# Altium footprint library rest.PCBLIB: 42 footprints (part 1 of 3)
Each footprint in its own frame and in the unit in brackets; x right, y up, seen from the top. Pads: shape width x height; smd on the part's side, far side on the other; paste and mask are expansions set on the pad; w line width, h text height; cw(c..) or ccw(c..) is an arc to the next point about the centre after c.
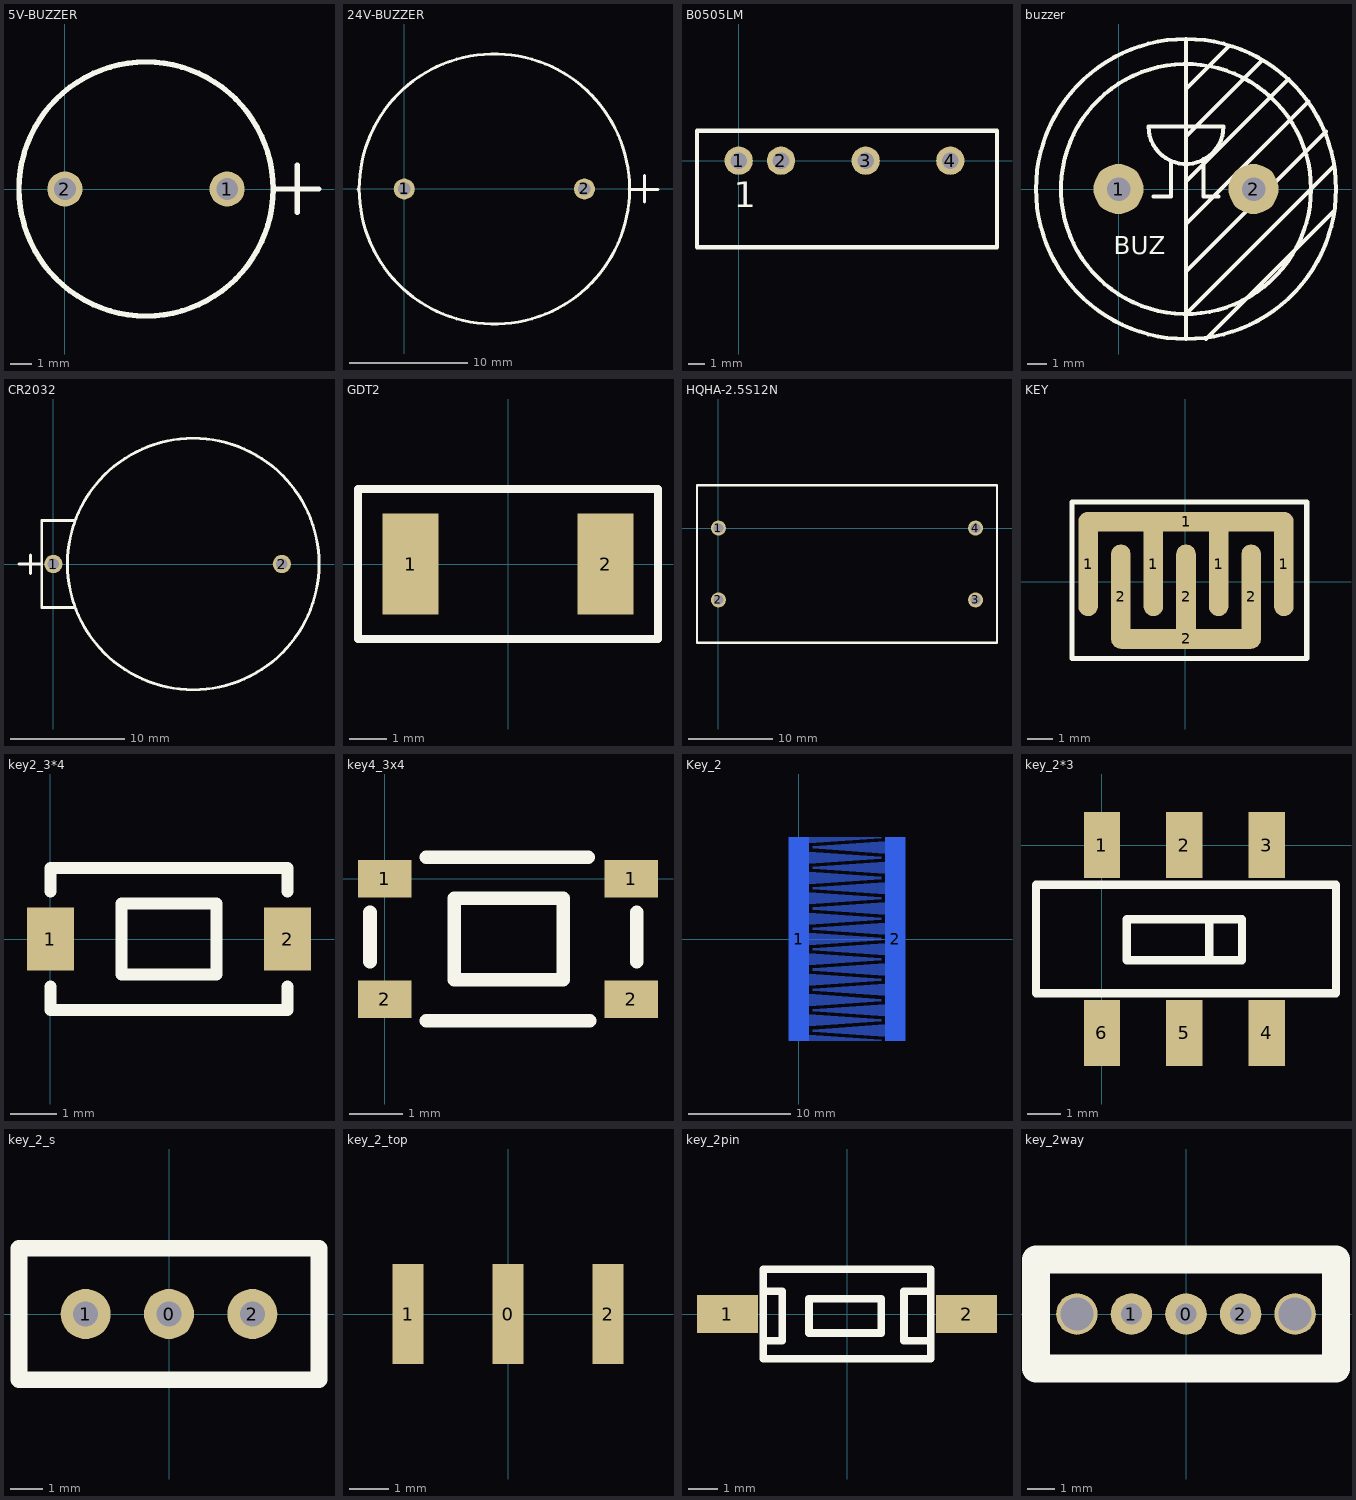
[diagram p0: the footprints below, top view; thin cyan lines are the x and y axes]

## 5V-BUZZER [mil]
pads (2):
  round 65 hole 40: 1(300,0) 2(0,0)
TopOverlay:
  circle w10: c150,0 r235
  lines w10: 385,0 470,0 ; 430,-43 430,44

## 24V-BUZZER [mil]
pads (2):
  round 70 hole 42: 1(0,0) 2(600,0)
TopOverlay:
  circle w10: c300,0 r450
  lines w10: -154,-1 -151,2 ; 749,0 750,-1 845,-1 ; 800,-43 800,45

## B0505LM [mm]
pads (4):
  round 1.7 hole 1: 1(0,0) 2(2.54,0) 3(7.62,0) 4(12.7,0)
TopOverlay:
  lines w0.254: -2.5,-5.2 -2.5,1.8 15.5,1.8 15.5,-5.2 -2.5,-5.2
  text "1" at -0.3,-2.8 h1.52

## buzzer [mil]
pads (2):
  round 100 hole 47: 1(0,0) 2(270,0)
TopOverlay:
  circle w8: c135,0 r250
  circle w8: c135,0 r300
  lines w8: 70,-15 105,-15 105,55 ; 135,-300 135,300 ; 135,-250 430,45 ; 135,-165 415,115 ; 135,-70 380,175 ; 135,15 340,220 ; 135,105 285,255 ; 135,200 220,285 ; 170,60 170,-15 200,-15 ; 175,-300 430,-45 ; 60,125 ccw(c135,125) 210,125 60,125
  text "BUZ" at -10,-130 h36

## CR2032 [mm]
pads (2):
  round 1.6 hole 1: 1(0,0) 2(19.984,0)
TopOverlay:
  circle w0.254: c12.234,0 r11
  lines w0.254: -3.007,0 -1.016,0 ; -2.016,-0.838 -2.016,0.787 ; 1.784,-3.8 -1.016,-3.8 -1.016,3.8 1.784,3.8

## GDT2 [mm]
pads (2):
  rect 1.5x2.7 smd: 1(-2.6,0) 2(2.6,0)
TopOverlay:
  lines w0.203: -4,-2 -4,2 4,2 4,-2 -4,-2

## HQHA-2.5S12N [mil]
pads (4):
  round 70 hole 45: 1(0,0) 2(0,-335) 3(1200,-335) 4(1200,0)
TopOverlay:
  lines w10: -100,-535 -100,200 1300,200 1300,-535 -100,-535

## KEY [mil]
pads (9):
  oval 30x160 smd: 1(-148.82,27.56) 1(-48.82,27.56) 1(51.18,27.56) 1(151.18,27.56) 2(-98.82,-22.44) 2(1.18,-22.44) 2(101.18,-22.44)
  oval 330x30 smd: 1(1.18,92.56)
  oval 230x30 smd: 2(1.18,-87.44)
TopOverlay:
  lines w8: -173.82,-117.44 -173.82,122.56 186.18,122.56 186.18,-117.44 -173.82,-117.44

## key2_3*4 [mm]
pads (2):
  rect 1x1.35 smd: 1(0,0) 2(5.08,0)
TopOverlay:
  lines w0.254: 0,-1.016 0,-1.524 5.08,-1.524 5.08,-1.016 ; 0,1.016 0,1.524 0.254,1.524 4.826,1.524 5.08,1.524 5.08,1.016 ; 1.524,-0.762 3.556,-0.762 3.556,0.762 1.524,0.762 1.524,-0.762
3D body "SW.STEP": height 2, standoff -0.1, extent -0.034,-1.573 4.924,1.427

## key4_3x4 [mm]
pads (4):
  rect 1x0.7 smd: 1(0,0) 1(4.6,0) 2(0,-2.25) 2(4.6,-2.25)
TopOverlay:
  lines w0.254: -0.275,-1.55 -0.275,-0.625 ; 0.775,-2.65 3.825,-2.65 ; 0.775,0.399 3.8,0.4 ; 4.7,-1.55 4.7,-0.625 ; 1.299,-1.887 3.331,-1.887 3.331,-0.363 1.299,-0.363 1.299,-1.887
3D body "SW.STEP": height 2, standoff -0.1, extent -0.259,-2.698 4.699,0.302

## Key_2 [mm]
pads (2):
  rect 2x20 smd far side: 1(0,0) 2(9.5,0)
BottomLayer:
  region: 1,-5.4 8.1,-5.9 8.1,-6.1 1,-6.6
  region: 8.5,-4.4 1.4,-4.9 1.4,-5.1 8.5,-5.6
  region: 1,-7.4 8.1,-7.9 8.1,-8.1 1,-8.6
  region: 1,-9.4 8.1,-9.9 8.1,-10 1,-10
  region: 8.5,-8.4 1.4,-8.9 1.4,-9.1 8.5,-9.6
  region: 8.5,-6.4 1.4,-6.9 1.4,-7.1 8.5,-7.6
  region: 1,10 8.1,10 8.1,9.9 1,9.4
  region: 1,8.6 8.1,8.1 8.1,7.9 1,7.4
  region: 1,6.6 8.1,6.1 8.1,5.9 1,5.4
  region: 8.5,5.6 1.4,5.1 1.4,4.9 8.5,4.4
  region: 8.5,7.6 1.4,7.1 1.4,6.9 8.5,6.4
  region: 8.5,9.6 1.4,9.1 1.4,8.9 8.5,8.4
  region: 8.5,1.6 1.4,1.1 1.4,0.9 8.5,0.4
  region: 8.5,-0.4 1.4,-0.9 1.4,-1.1 8.5,-1.6
  region: 8.5,-2.4 1.4,-2.9 1.4,-3.1 8.5,-3.6
  region: 1,-3.4 8.1,-3.9 8.1,-4.1 1,-4.6
  region: 1,-1.4 8.1,-1.9 8.1,-2.1 1,-2.6
  region: 1,0.6 8.1,0.1 8.1,-0.1 1,-0.6
  region: 1,4.6 8.1,4.1 8.1,3.9 1,3.4
  region: 8.5,3.6 1.4,3.1 1.4,2.9 8.5,2.4
  region: 1,2.6 8.1,2.1 8.1,1.9 1,1.4

## key_2*3 [mm]
pads (6):
  rect 1.1x2 smd: 1(0,0) 2(2.5,0) 3(5,0) 4(5,-5.7) 5(2.5,-5.7) 6(0,-5.7)
TopOverlay:
  lines w0.254: 3.25,-3.5 3.25,-2.25 ; -2,-4.5 -2,-1.2 7.1,-1.2 7.1,-4.5 -2,-4.5 ; 0.75,-3.5 0.75,-2.25 4.25,-2.25 4.25,-3.5 0.75,-3.5
3D body: height 0.2, standoff 0, extent 4.5,-6.5 5.5,-4.6
3D body: height 0.2, standoff 0, extent 2,-6.5 3,-4.6
3D body: height 0.2, standoff 0, extent -0.5,-6.5 0.5,-4.6
3D body: height 0.2, standoff 0, extent 4.5,-1.1 5.5,0.8
3D body: height 0.2, standoff 0, extent 2,-1.1 3,0.8
3D body: height 0.2, standoff 0, extent -0.5,-1.1 0.5,0.8
3D body: height 3, standoff 0, extent -2,-4.5 7.1,-1.2
3D body: height 4, standoff 3.1, extent 0.8,-3.5 4.3,-2.2
3D body: height 4, standoff 3.1, extent 3.2,-3.5 4.3,-2.2

## key_2_s [mil]
pads (3):
  round 60 hole 30: 0(0,0) 1(-100,0) 2(100,0)
TopOverlay:
  lines w20: -180,-78.74 180,-78.74 180,78.74 -180,78.74 -180,-78.74

## key_2_top [mm]
pads (3):
  rect 0.8x2.54 smd: 0(0,0) 1(-2.54,0) 2(2.54,0)

## key_2pin [mm]
pads (2):
  rect 2.032x1.27 smd: 1(-4,0) 2(4,0)
TopOverlay:
  lines w0.254: -2.8,-0.889 -2.159,-0.889 -2.159,0.762 -2.8,0.762 ; 2.8,-0.889 1.905,-0.889 1.905,0.762 2.8,0.762 ; -2.8,-1.5 2.8,-1.5 2.8,1.5 -2.8,1.5 -2.8,-1.5 ; -1.27,-0.635 -1.27,0.508 1.143,0.508 1.143,-0.635 -1.27,-0.635

## key_2way [mil]
pads (5):
  round 60 hole 30: 0(0,0) 1(-78.74,0) 2(78.74,0)
  round 60 hole 47.24: ""(-157.48,0) ""(157.48,0)
TopOverlay:
  lines w40: -216.54,-78.74 -216.54,78.74 216.54,78.74 216.54,-78.74 -216.54,-78.74